# Altium footprint library UEEE_READ_FRID_V1.1.PcbLib: 18 footprints (part 2 of 2)
Each footprint in its own frame and in the unit in brackets; x right, y up, seen from the top. Pads: shape width x height; smd on the part's side, far side on the other; paste and mask are expansions set on the pad; w line width, h text height; cw(c..) or ccw(c..) is an arc to the next point about the centre after c.
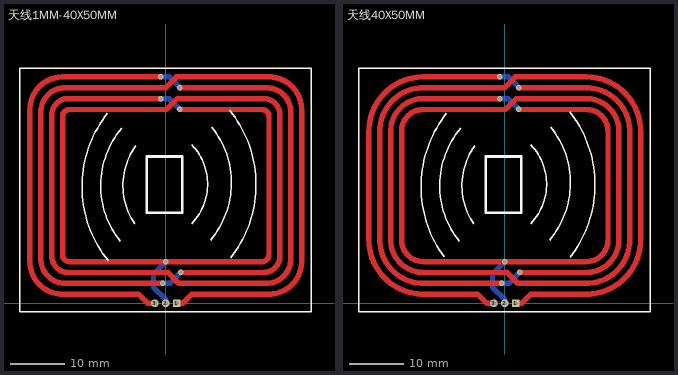
[diagram p1: the footprints below, top view; thin cyan lines are the x and y axes]

## 天线1MM-40X50MM [mil] "天线1MM-40X50MM"
pads (3):
  rect 55x55 hole 35: 1(78.74,0)
  round 55 hole 35: 2(0,0) 3(-78.74,0)
via 108,222.98 diameter 40 hole 25
via 0,301.72 diameter 40 hole 25
via -35,1482.82 diameter 40 hole 25
via 103,1404.08 diameter 40 hole 25
via 103,1561.56 diameter 40 hole 25
via -36,1640.5 diameter 40 hole 25
via -20.5,144.24 diameter 40 hole 25
Top Layer:
  lines w39.37: -748.03,65.51 cw(c-748.03,301.73) -984.25,301.73 -984.25,1404.08 ; -748.03,1640.3 ccw(c-748.03,1404.08) -984.25,1404.08 ; -748.02,65.5 -197.5,65.5 -132,0 -78.74,0 ; -747.83,1640.5 -36,1640.5 ; -35,1482.82 -707.76,1482.82 ccw(c-707.76,1364.71) -825.87,1364.71 -825.87,341.1 ccw(c-707.76,341.1) -707.76,222.99 15.51,222.98 ; -20.5,144.24 -728.33,144.24 ; 78.74,0 124,0 189.5,65.5 747.78,65.5 ccw(c747.8,301.73) 984.02,301.73 984.02,1404.09 ccw(c747.8,1404.09) 747.8,1640.31 ; 94.25,144.24 728.33,144.24 ccw(c728.35,321.42) 905.51,321.42 905.51,1384.41 ccw(c728.35,1384.41) 728.35,1561.57 ; 103,1404.08 698.03,1404.08 cw(c698.03,1354.08) 748.03,1354.08 748.03,351.72 cw(c698.03,351.72) 698.03,301.72 0,301.72 -698.03,301.72 cw(c-698.03,351.72) -748.03,351.72 -748.03,1354.08 cw(c-698.03,1354.08) -698.03,1404.08 4.49,1404.08 83.23,1482.82 708.65,1482.82 708.66,1482.83 cw(c708.66,1364.72) 826.77,1364.72 826.77,341.1 cw(c708.66,341.1) 708.66,222.99 108,222.98 ; 103,1561.56 728.33,1561.56 ; -984.25,1404.08 -984.25,1404.08 ; -905.51,1384.4 cw(c-728.35,1384.4) -728.35,1561.56 -1.26,1561.56 77.48,1640.3 747.78,1640.3 ; -905.51,1384.4 -905.51,1384.4 ; -905.51,1384.4 -905.51,321.42 ccw(c-728.35,321.42) -728.35,144.25 ; -728.35,144.25 -728.33,144.24 ; 728.33,1561.56 728.35,1561.57 ; 747.78,1640.3 747.8,1640.32
  lines w40: 15.51,222.98 94.25,144.24
Bottom Layer:
  lines w39.37: -36,1640.5 25.5,1640.5 103,1563 ; -35,1482.82 24.26,1482.82 103,1404.08 ; -20.5,144.24 26.74,144.24 29.26,144.24 108,222.98 ; 0,0 0,25.5 -89,114.5 -89,212.72 0,301.72
Top Overlay:
  lines w10: -422.94,1375.64 ccw(c251.92,844.88) -416.95,306.6 ; -328.95,448.59 cw(c173.76,852.6) -320.18,1267.28 ; -223.95,574.59 cw(c184.01,853.6) -218.14,1140.91 ; 189.05,577.59 ccw(c-111.44,862.79) 189.87,1147.11 ; 324.77,457.02 ccw(c-169.17,871.7) 333.54,1275.7 ; 463.89,1397.63 cw(c-204.99,859.34) 469.88,328.58 ; -1056.77,-62.18 1053.23,-62.18 1053.23,1702.82 -1056.77,1702.82 -1056.77,-62.18
  lines w20: -136.95,655.59 120.05,655.59 120.05,1063.59 -136.95,1063.59 -136.95,655.59

## 天线40X50MM [mil] "天线40X50MM"
pads (3):
  rect 55x55 hole 35: 1(78.74,0)
  round 55 hole 35: 2(0,0) 3(-78.74,0)
via 108,222.98 diameter 40 hole 25
via 0,301.72 diameter 40 hole 25
via -35,1482.82 diameter 40 hole 25
via 103,1404.08 diameter 40 hole 25
via 103,1561.56 diameter 40 hole 25
via -36,1640.5 diameter 40 hole 25
via -20.5,144.24 diameter 40 hole 25
Top Layer:
  lines w39.37: -593.44,1561.56 -1.26,1561.56 77.48,1640.3 590.54,1640.3 cw(c590.55,1246.61) 984.25,1246.61 984.25,459.21 cw(c590.55,459.21) 590.55,65.51 189.5,65.5 124,0 78.74,0 ; -590.55,301.73 cw(c-590.55,459.21) -748.03,459.21 -748.03,1246.61 cw(c-590.55,1246.61) -590.55,1404.09 4.49,1404.08 83.23,1482.82 590.54,1482.82 ; -590.54,1482.82 -35,1482.82 ; -590.55,1482.83 ccw(c-590.55,1246.61) -826.77,1246.61 -826.77,459.21 ccw(c-590.55,459.21) -590.55,222.99 15.51,222.98 ; -590.55,1561.57 ccw(c-590.55,1246.61) -905.51,1246.61 -905.51,459.21 ccw(c-590.55,459.21) -590.55,144.25 -20.5,144.24 ; -590.55,1640.32 ccw(c-590.55,1246.61) -984.25,1246.61 -984.25,459.21 ccw(c-590.55,459.21) -590.55,65.51 -197.5,65.5 -132,0 -78.74,0 ; -590.37,1640.5 -36,1640.5 ; -586.12,301.72 0,301.72 590.54,301.72 ; 94.25,144.24 590.54,144.24 ccw(c590.55,459.21) 905.51,459.21 905.51,1246.61 ccw(c590.55,1246.61) 590.55,1561.57 103.01,1561.57 ; 103,1404.08 590.54,1404.08 cw(c590.55,1246.61) 748.03,1246.61 748.03,459.21 cw(c590.55,459.21) 590.55,301.73 ; 108,222.98 590.54,222.98 ccw(c590.55,459.21) 826.77,459.21 826.77,1246.61 ccw(c590.55,1246.61) 590.55,1482.83
  lines w40: 15.51,222.98 94.25,144.24
Bottom Layer:
  lines w39.37: -36,1640.5 25.5,1640.5 103,1563 ; -35,1482.82 24.26,1482.82 103,1404.08 ; -20.5,144.24 26.74,144.24 29.26,144.24 108,222.98 ; 0,0 0,25.5 -89,114.5 -89,212.72 0,301.72
Top Overlay:
  lines w10: -439.63,336.06 cw(c251.92,844.88) -422.94,1375.64 ; -328.95,448.59 cw(c173.76,852.6) -320.18,1267.28 ; -223.95,574.59 cw(c184.01,853.6) -218.14,1140.91 ; 189.05,577.59 ccw(c-111.44,862.79) 189.87,1147.11 ; 324.77,457.02 ccw(c-169.17,871.7) 333.54,1275.7 ; 471.96,1387.43 cw(c-204.99,859.34) 474.02,333.89 ; -1056.77,-62.18 1053.23,-62.18 1053.23,1702.82 -1056.77,1702.82 -1056.77,-62.18
  lines w20: -136.95,655.59 120.05,655.59 120.05,1063.59 -136.95,1063.59 -136.95,655.59